# Altium schematic symbol library 原理图库.SchLib: 1 symbol
Pins are listed as number, name and electrical type; pins without a type are passive.

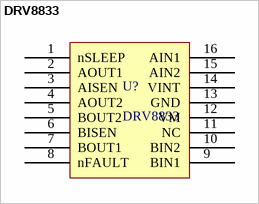
[diagram p0: symbol DRV8833]

## DRV8833
designator U?
DRV8833电机驱动芯片2.7v-10.8v
footprint TSSOP-16 (4.96x4.40x1.00 e=0.65  封装库来自淘宝卖家 ID：黄晶宝石)
pins: 1 nSLEEP, 2 AOUT1, 3 AISEN, 4 AOUT2, 5 BOUT2, 6 BISEN, 7 BOUT1, 8 nFAULT, 9 BIN1, 10 BIN2, 11 NC, 12 VM, 13 GND, 14 VINT, 15 AIN2, 16 AIN1